# Altium schematic symbol library Passives.SchLib: 31 symbols
Pins are listed as number, name and electrical type; pins without a type are passive.

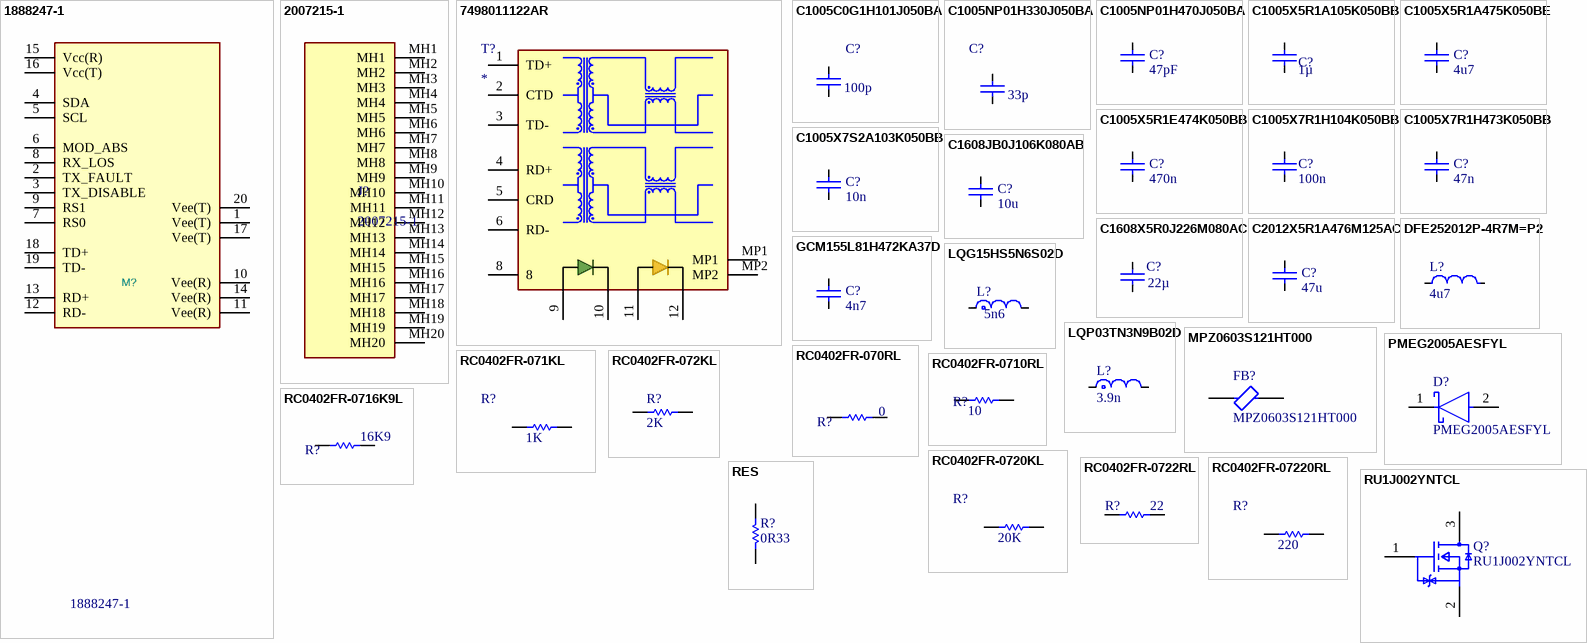
[diagram p0: symbols 1888247-1 to RU1J002YNTCL]

## 1888247-1
designator M?
SFP+, Connector, .8mm [.031in] Centerline, Power & Signal, Operating Temperature Range -55 – 85 °C [-67 – 185 °F], Data Rate (Max) 16Gb/sec; Manufacturer: TE Connectivity (TE; License: Apache-2.0; Author: Parsa Malekpor; Value: 1888247-1; Part Number: 1888247-1
footprint 1888247-1
pins: 1 Vee(T), 2 TX_FAULT, 3 TX_DISABLE, 4 SDA, 5 SCL, 6 MOD_ABS, 7 RS0, 8 RX_LOS, 9 RS1, 10 Vee(R), 11 Vee(R), 12 RD-, 13 RD+, 14 Vee(R), 15 Vcc(R), 16 Vcc(T), 17 Vee(T), 18 TD+, 19 TD-, 20 Vee(T)

## 2007215-1
designator J?
Position SFP+ Cage Connector Press-Fit Through Hole
footprint 2007215-1
pins: MH1, MH2, MH3, MH4, MH5, MH6, MH7, MH8, MH9, MH10, MH11, MH12, MH13, MH14, MH15, MH16, MH17, MH18, MH19, MH20

## 7498011122AR
designator T?
Transformer; Manufacturer_Name: Wurth Elektronik; Manufacturer_Part_Number: 7498011122AR; Datasheet Link: https://www.we-online.com/catalog/datasheet/7498011122AR.pdf; Height: 11mm; Mouser Part Number: 710-7498011122AR; Mouser Price/Stock: https://www.mouser.co.uk/ProductDetail/Wurth-Elektronik/7498011122AR?qs=GBLSl2AkiruAAlB45OgRtA%3D%3D
footprint 7498011122AR
pins: 1 TD+, 2 CTD, 3 TD-, 4 RD+, 5 CRD, 6 RD-, 8, 9 A_YELLOW, 10 K_YELLOW, 11 A_GREEN, 12 K_GREEN, MP1, MP2

## C1005C0G1H101J050BA
designator C?  value 100p  (hidden comment: C1005C0G1H101J050BA)
MLCC 100pF ±5% 50V C0G SMD 0402; Temperature Coefficient: 30ppm/°C; Dielectric Material: Ceramic; Packaging: Tape and Reel; Number of Pins: 2; Construction: Flat; Max Operating Temperature: 125°C; Depth: 0.5mm; Radiation Hardening: No; Length: 1mm; Mount: Surface Mount; Thickness: 0.022inch; RoHS Compliant: Yes; Width: 0.5mm; Termination: SMD/SMT; Min Operating Temperature: -55°C; Case/Package: 0402; Tolerance: 5%; Height: 0.5mm; Dielectric: C0G; REACH SVHC: No SVHC; Case Code (Imperial): 0402; Voltage Rating: 50V; Package Quantity: 1; Voltage Rating (DC): 50V; Weight: 2.3E-05oz; Series: C; Case Code (Metric): 1005; Voltage: 50V; Lead Free: Lead Free; Part Number: C1005C0G1H101J050BA
footprint FP-C1005-050-0_05-MFG
footprint FP-C1005-050-0_05-IPC_B
footprint FP-C1005-050-0_05-IPC_C
footprint FP-C1005-050-0_05-IPC_A
pins: 1, 2

## C1005NP01H330J050BA
designator C?  value 33p  (hidden comment: C1005NP01H330J050BA)
MLCC 33pF ±5% 50V NP0 SMD 0402; Dielectric: C0G; Case Code (Imperial): 0402; Thickness: 0.022inch; Width: 0.02inch; Case Code (Metric): 1005; Length: 0.039inch; Voltage Rating (DC): 50V; Mount: Surface Mount; Max Operating Temperature: 150°C; Height: 0.5mm; Weight: 2.3E-05oz; Voltage Rating: 50V; Case/Package: 0402; Features: High Temperature; Termination: SMD/SMT; Package Quantity: 10000; RoHS Compliant: Yes; Series: C; Tolerance: 5%; Min Operating Temperature: -55°C; Packaging: Tape and Reel; Part Number: C1005NP01H330J050BA
footprint FP-C1005-050-0_05-IPC_C
footprint FP-C1005-050-0_05-MFG
footprint FP-C1005-050-0_05-IPC_A
footprint FP-C1005-050-0_05-IPC_B
pins: 1, 2

## C1005NP01H470J050BA
designator C?  value 47pF  (hidden comment: C1005NP01H470J050BA)
MLCC 47pF ±5% 50V NP0 SMD 0402; Manufacturer: TDK; Dielectric: C0G; Termination: SMD/SMT; RoHS Compliant: Yes; Voltage Rating (DC): 50V; Voltage Rating: 50V; Min Operating Temperature: -55°C; Features: High Temperature; Mount: Surface Mount; Weight: 2.3E-05oz; Packaging: Tape and Reel; Width: 0.02inch; Case/Package: 0402; Package Quantity: 1; Thickness: 0.022inch; Case Code (Imperial): 0402; Case Code (Metric): 1005; Max Operating Temperature: 150°C; Series: C; Length: 0.039inch; Height: 0.5mm; Tolerance: 5%
footprint FP-C1005-050-0_05-IPC_A
footprint FP-C1005-050-0_05-IPC_B
footprint FP-C1005-050-0_05-MFG
footprint FP-C1005-050-0_05-IPC_C
pins: 1, 2

## C1005X5R1A105K050BB
designator C?  value 1µ  (hidden comment: C1005X5R1A105K050BB)
MLCC 1 uF, +/- 10%, 10 V, -55 to 85 degC, 0402 (1005 Metric), RoHS, Tape and Reel; Manufacturer: TDK; PCN Part Number: MLCCPartNumberChange30/Nov/2012; Product Training Modules: CSeriesGeneralApplicationsSEAT,CCV,andTVCLDesignToolsGuidetoReplacinganElectrolyticCapacitorwithanMLCC; Voltage - Rated: 10V; Temperature Coefficient: X5R; Online Catalog: CSeries,GeneralPurpose; Other Names: 445-4114-6; Category: Capacitors; Features: -; Lead Style: -; RoHS Information: RoHSCertificate-MLCC; Manufacturer URL: http://www.tdk.com/; Lead Spacing: -; Thickness (Max): 0.022"(0.55mm); Applications: GeneralPurpose; Tolerance: ±10%; Mounting Technology: SurfaceMount; Mounting Type: SurfaceMount,MLCC; Operating Temperature: -55°C~85°C; Datasheet URL: http://download.siliconexpert.com/pdfs/2015/4/21/15/54/45/779/tdk_/manual/37024850441143360mlcc_commercial_general_en.pdf; Package Reference: 1005; Height - Seated (Max): -; Family: CeramicCapacitors; Datasheet Version: 03/2015; Package Description: 2-Pin Surface Mount Device, Body 1 x 0.5 mm; Packaging: Digi-Reel®; Size / Dimension: 0.039"Lx0.020"W(1.00mmx0.50mm); Standard Package: 1; Package / Case: 0402(1005Metric); Ratings: -; Series: C; Part Number: C1005X5R1A105K050BB
footprint CAPC1005X55X10LL05 (Chip Capacitor, 2-Leads, Body 1.05x0.55mm, IPC High Density)
footprint CAPC1005X55X10NL05 (Chip Capacitor, 2-Leads, Body 1.05x0.55mm, IPC Medium Density)
pins: 1, 2

## C1005X5R1A475K050BE
designator C?  value 4u7  (hidden comment: C1005X5R1A475K050BE)
MLCC  4.7UF ±20 10V X5R 0402; Tolerance: 10%; Max Operating Temperature: 85°C; Case Code (Metric): 1005; Voltage Rating: 10V; Packaging: Tape and Reel; Case/Package: 0402; Features: Soft Termination; Min Operating Temperature: -55°C; Mount: Surface Mount; Case Code (Imperial): 0402; RoHS Compliant: Yes; Part Number: C1005X5R1A475K050BE
footprint FP-C1005-050-0_20-0_10-MFG
footprint FP-C1005-050-0_20-0_10-IPC_C
footprint FP-C1005-050-0_20-0_10-IPC_B
footprint FP-C1005-050-0_20-0_10-IPC_A
pins: 1, 2

## C1005X5R1E474K050BB
designator C?  value 470n  (hidden comment: C1005X5R1E474K050BB)
MLCC 470nF ±10% 25V X5R SMD 0402; Dielectric Material: Ceramic; Dissipation Factor: 10%; Case Code (Metric): 1005; RoHS Compliant: Yes; Lead Free: Lead Free; Length: 1mm; Case/Package: 0402; Termination: SMD/SMT; Dielectric: X5R; Depth: 0.5mm; Series: C; Voltage: 25V; Tolerance: 10%; Packaging: Tape and Reel; Resistor Type: Ceramic; Min Operating Temperature: -55°C; Width: 0.02inch; Thickness: 500um; Package Quantity: 10000; Case Code (Imperial): 0402; Construction: Flat; Height: 0.5mm; REACH SVHC: No SVHC; Radiation Hardening: No; Weight: 2.3E-05oz; Mount: Surface Mount; Voltage Rating (DC): 25V; Max Operating Temperature: 85°C; Part Number: C1005X5R1E474K050BB; Voltage Rating: 25V
footprint FP-C1005-050-0_05-IPC_C
pins: 1, 2

## C1005X7R1H104K050BB
designator C?  value 100n  (hidden comment: C1005X7R1H104K050BB)
MLCC 100nF ±10% 50V X7R SMD 0402; Dielectric Material: Ceramic; Voltage: 50V; Min Operating Temperature: -55°C; Depth: 0.5mm; Radiation Hardening: No; RoHS Compliant: Yes; Voltage Rating (DC): 50V; Lead Free: Lead Free; Resistor Type: Ceramic; Height: 0.5mm; Dielectric: X7R; Thickness: 0.022inch; Case/Package: 0402; Case Code (Metric): 1005; Termination: SMD/SMT; Packaging: Tape and Reel; Max Operating Temperature: 125°C; Mount: Surface Mount; Package Quantity: 1; Width: 0.02inch; Weight: 2.3E-05oz; Voltage Rating: 50V; Tolerance: 10%; Construction: Flat; Case Code (Imperial): 0402; Length: 1mm; REACH SVHC: No SVHC; Series: C; Part Number: C1005X7R1H104K050BB
footprint FP-C1005-050-0_05-IPC_C
footprint FP-C1005-050-0_05-IPC_A
footprint FP-C1005-050-0_05-IPC_B
footprint FP-C1005-050-0_05-MFG
pins: 1, 2

## C1005X7R1H473K050BB
designator C?  value 47n  (hidden comment: C1005X7R1H473K050BB)
MLCC 47nF ±10% 50V X7R SMD 0402; Dielectric Material: Ceramic; Dissipation Factor: 5%; Weight: 2.3E-05oz; Max Operating Temperature: 125°C; Package Quantity: 1; Width: 0.02inch; Min Operating Temperature: -55°C; Length: 1mm; Dielectric: X7R; Voltage Rating: 50V; Number of Pins: 2; Lead Free: Lead Free; Voltage: 50V; Height: 0.5mm; Case Code (Metric): 1005; Voltage Rating (DC): 50V; Construction: Flat; Termination: SMD/SMT; Case Code (Imperial): 0402; Depth: 0.5mm; Packaging: Tape and Reel; Mount: Surface Mount; Series: C; RoHS Compliant: Yes; Tolerance: 10%; Case/Package: 0402; Thickness: 0.022inch; Radiation Hardening: No; Resistor Type: Ceramic; REACH SVHC: No SVHC; Part Number: C1005X7R1H473K050BB
footprint FP-C1005-050-0_05-IPC_C (Footprint not found)
pins: 1, 2

## C1005X7S2A103K050BB
designator C?  value 10n  (hidden comment: C1005X7S2A103K050BB)
MLCC 10nF ±10% 100V X7S SMD 0402; Dielectric Material: Ceramic; Dissipation Factor: 5%; Case Code (Imperial): 0402; Packaging: Tape and Reel; Voltage Rating (DC): 100V; Max Operating Temperature: 125°C; Min Operating Temperature: -55°C; Case Code (Metric): 1005; Weight: 2.3E-05oz; Length: 1mm; Width: 0.02inch; Tolerance: 10%; Series: C; Package Quantity: 1; RoHS Compliant: Yes; Voltage: 100V; Resistor Type: Ceramic; Number of Pins: 2; Mount: Surface Mount; Height: 0.5mm; Termination: SMD/SMT; Dielectric: X7S; Thickness: 0.022inch; REACH SVHC: No SVHC; Lead Free: Lead Free; Voltage Rating: 100V; Case/Package: 0402; Depth: 0.5mm; Part: *; Part Number: C1005X7S2A103K050BB
footprint FP-C1005-050-0_05-IPC_B
footprint FP-C1005-050-0_05-MFG
footprint FP-C1005-050-0_05-IPC_A
footprint FP-C1005-050-0_05-IPC_C
pins: 1, 2

## C1608JB0J106K080AB
designator C?  value 10u  (hidden comment: C1608JB0J106K080AB)
MLCC 10μF ±10% 6.3V JB SMD 0603; Dielectric Material: Ceramic; Case Code (Imperial): 0603; Thickness: 0.035inch; Min Operating Temperature: -25°C; Termination: SMD/SMT; Lead Free: Lead Free; Resistor Type: Ceramic; Width: 0.8mm; Voltage Rating (DC): 6.3V; Package Quantity: 4000; Tolerance: 10%; Length: 0.063inch; Series: C; Height: 0.8mm; Max Operating Temperature: 85°C; Mount: Surface Mount; RoHS Compliant: Yes; Voltage Rating: 6.3V; Case Code (Metric): 1608; Case/Package: 0603; Packaging: Tape and Reel
footprint FP-C1608-080-0_1-IPC_B
footprint FP-C1608-080-0_1-MFG
footprint FP-C1608-080-0_1-IPC_A
footprint FP-C1608-080-0_1-IPC_C
pins: 1, 2

## C1608X5R0J226M080AC
designator C?  value 22µ  (hidden comment: C1608X5R0J226M080AC)
MLCC 22 uF, ±20%, 6.3 V, -55 to 85 degC, 1608 (0603 Metric), RoHS, Tape and Reel; PCN Part Number: MLCCPartNumberChange30/Nov/2012; Manufacturer: TDK; Temperature Coefficient: X5R; Product Training Modules: CSeriesGeneralApplicationsSEAT,CCV,andTVCLDesignToolsGuidetoReplacinganElectrolyticCapacitorwithanMLCC; Other Names: 445-8028-1; Voltage - Rated: 6.3V; Design Resources: 20WNon-IsolatedBuckLEDDriverUsingPLLNK460KG; Online Catalog: CSeries,GeneralPurpose; Kits: 445-9003-KIT-ND-KITCAPCERHICAPMLCCSMD; Tolerance: ±20%; Series: C; Thickness (Max): 0.039"(1.00mm); Mounting Type: SurfaceMount,MLCC; Ratings: -; Datasheet Version: Mar-15; Package Reference: 603; Packaging: CutTape(CT); Features: -; Package / Case: 0603(1608Metric); Family: CeramicCapacitors; Lead Spacing: -; RoHS Information: RoHSCertificate-MLCC; Manufacturer URL: http://www.tdk.com/; Lead Style: -; Category: Capacitors; Applications: GeneralPurpose; Package Description: 2-Pin Surface Mount Device, Body 1.6 x 0.8 mm; Standard Package: 1; Datasheet URL: http://www.farnell.com/datasheets/1913358.pdf; Height - Seated (Max): -; Operating Temperature: -55degC~85degC; Size / Dimension: 0.063"Lx0.031"W(1.60mmx0.80mm)
footprint CAPC1608X100X20ML10 (Chip Capacitor, 2-Leads, Body 1.70x0.90mm, IPC Low Density)
footprint CAPC1608X100X20NL10 (Chip Capacitor, 2-Leads, Body 1.70x0.90mm, IPC Medium Density)
footprint CAPC1608X100X20LL10 (Chip Capacitor, 2-Leads, Body 1.70x0.90mm, IPC High Density)
pins: 1, 2

## C2012X5R1A476M125AC
designator C?  value 47u  (hidden comment: C2012X5R1A476M125AC)
MLCC 47μF ±20% 10V X5R SMD 0805 Multilayer Ceramic Capacitors; RoHS Compliant: Yes; Dielectric: X5R; Case Code (Imperial): 0805; Min Operating Temperature: -55°C; Length: 2mm; Voltage Rating: 10V; Lead Free: Lead Free; Weight: 0.000194oz; Resistor Type: Ceramic; Dielectric Material: Ceramic; Max Operating Temperature: 85°C; Height: 1.25mm; Width: 0.049inch; Depth: 1.25mm; Termination: SMD/SMT; Case/Package: 0805; Voltage Rating (DC): 10V; Voltage: 10V; Thickness: 0.057inch; Tolerance: 20%; REACH SVHC: No SVHC; Package Quantity: 1; Series: C; Case Code (Metric): 2012; Mount: Surface Mount; Packaging: Tape and Reel; Part Number: C2012X5R1A476M125AC
footprint FP-C2012-125-0_2-IPC_B
footprint FP-C2012-125-0_2-MFG
footprint FP-C2012-125-0_2-IPC_A
footprint FP-C2012-125-0_2-IPC_C
pins: 1, 2

## DFE252012P-4R7M=P2
designator L?  value 4u7  (hidden comment: DFE252012P-4R7M=P2)
Shielded Wirewound Inductor 4.7uH 20% 1400mA 0.2Ω 1008 (2520); Core Material: Ferrite; Test Frequency: 1MHz; DC Resistance (DCR): 200mR; Max DC Current: 1.4A; Current Rating: 2A; Case Code (Metric): 2520; Case Code (Imperial): 1008; Inductance: 4.7uH; Mount: Surface Mount; Packaging: Tape and Reel; Depth: 2mm; Length: 0.098inch; Case/Package: 1008; Max Operating Temperature: 125°C; Shielding: Shielded; Width: 0.079inch; Height - Seated (Max): 0.047inch; Tolerance: 20%; Min Operating Temperature: -40°C; Resistor Type: Wirewound
footprint FP-DFE252012C-IPC_C
footprint FP-DFE252012C-IPC_A
footprint FP-DFE252012C-MFG
footprint FP-DFE252012C-IPC_B
pins: 1, 2

## GCM155L81H472KA37D
designator C?  value 4n7  (hidden comment: GCM155L81H472KA37D)
MLCC for Automotive 4.7nF ±10% 50VDC X8L 0402 Paper T/R; Depth: 0.5mm; Length: 1mm; Packaging: Tape and Reel; Case/Package: 0402; Min Operating Temperature: -55°C; Max Operating Temperature: 150°C; Tolerance: 10%; Dielectric: X8L
footprint FP-GCM155-0_05-IPC_A
footprint FP-GCM155-0_05-IPC_B
footprint FP-GCM155-0_05-IPC_C
footprint FP-GCM155-0_05-MFG
pins: 1, 2

## LQG15HS5N6S02D
designator L?  value 5n6  (hidden comment: LQG15HS5N6S02D)
Multilayer type RF Inductor 5.6nH ±0.3nH 0.18Ω 650mA 0402; Core Material: Air; Test Frequency: 100MHz; DC Resistance (DCR): 200mR; Shielding: Unshielded; DC Current: 300mA; Self Resonant Frequency: 4.5GHz; Q Factor: 8; Lead Free: Lead Free; Case/Package: 0402; Packaging: Tape and Reel; Height: 0.5mm; Package Quantity: 10000; Max Operating Temperature: 125°C; Termination: SMD/SMT; Width: 0.5mm; Height - Seated (Max): 0.022inch; Depth: 0.55mm; Min Operating Temperature: -55°C; Military Standard: Not; Radiation Hardening: No; Length: 1mm; Case Code (Metric): 1005; Mount: Surface Mount; Case Code (Imperial): 0402; Inductance: 5.6nH; Max DC Current: 300mA; Current Rating: 300mA
footprint FP-LQG15HH_02-MFG
footprint FP-LQG15HH_02-IPC_B
footprint FP-LQG15HH_02-IPC_C
footprint FP-LQG15HH_02-IPC_A
pins: 1, 2

## LQP03TN3N9B02D
designator L?  value 3.9n  (hidden comment: LQP03TN3N9B02D)
Film type RF Inductor 3.9nH ±0.1nH 400mA 0.3Ω 0201 (0603); DC Resistance (DCR): 300mR; Core Material: Non-Magnetic; Test Frequency: 500MHz; Q Factor: 14; Shielding: Unshielded; Current: 250mA; Self Resonant Frequency: 5.7GHz; Tolerance: 3%; Case/Package: 0201; Height - Seated (Max): 0.013inch; Termination: SMD/SMT; Package Quantity: 15000; Series: LQP; Depth: 0.33mm; Lead Free: Lead Free; Inductance: 3.9nH; Rated Current-Max: 400mA; Length: 0.6mm; Height: 0.3mm; Case Code (Metric): 0603; Resistor Type: Thin Film; Packaging: Tape and Reel; Radiation Hardening: No; Technology: THIN FILM; Max DC Current: 400mA; Military Standard: Not; Min Operating Temperature: -55°C; Width: 0.012inch; DC Current: 400mA; Mount: Surface Mount; REACH SVHC: No SVHC; Current Rating: 400mA; Max Operating Temperature: 125°C; Case Code (Imperial): 0201
footprint FP-LQP03TG_02-IPC_A
footprint FP-LQP03TG_02-IPC_C
footprint FP-LQP03TG_02-MFG
footprint FP-LQP03TG_02-IPC_B
pins: 1, 2

## MPZ0603S121HT000
designator FB?
CHIP BEADS FOR GENERAL SIGNAL LI; Max Current Rating: 1A; DC Resistance (DCR): 130mR; Number of Lines: 1; Min Operating Temperature: -55°C; Mount: Surface Mount; Case Code (Imperial): 0201; Case Code (Metric): 0603; Max Operating Temperature: 125°C; RoHS Compliant: Yes; Packaging: Cut Tape; Case/Package: 0201
footprint FP-MPZ0603-IPC_C
footprint FP-MPZ0603-IPC_B
footprint FP-MPZ0603-IPC_A
footprint FP-MPZ0603-MFG
pins: 1, 2

## PMEG2005AESFYL
designator D?
DIODE SCHOTTKY 20V 0.5A SOD962; Manufacturer: Nexperia; Max Junction Temp: +150°C; Peak Reverse Current: 10uA; Capacitance: 25pF; Forward Current: 0.71A; Max Surge Forward Current: 4.5A; Value: 25pF; Lead Free: Yes; ComponentLink2Description: Datasheet; Octopart: https://octopart.com/pmeg2005aesfyl-nexperia-78741393; Ambient Temperature Range High: +150°C; Height: 0.32mm; Footprint Url: https://assets.nexperia.com/documents/outline-drawing/SOD962-2.pdf; Automotive: No; Device Class L2: Diodes; Ambient Temperature Range Low: -55°C; Device Class L3: Schottky Diodes; ComponentLink2URL: https://assets.nexperia.com/documents/data-sheet/PMEG2005AESF.pdf; Reverse Voltage: 20V; Temperature: to +150°C; Temperature Range High: +150°C; Device Class L1: Discrete Semiconductors; RoHS: TRUE; Digikey Description: DIODE SCHOTTKY 20V 0.5A SOD962; Category: Diode; Package: SOD962; Manufacturer Part Number: PMEG2005AESFYL
footprint FP-PMEG2005AESFYL-MFG
pins: 1 K, 2 A

## RC0402FR-070RL
designator R?  value 0  (hidden comment: RC0402FR-070RL)
GENERAL PURPOSE CHIP RESISTOR Metal Glaze/thick Film, 0.0625W, 0ohm, Surface Mount, 0402; Manufacturer: Yageo / Phycomp; Part Number: RC0402FR-071K5L; Supplier 1: Avnet; Supplier Part Number 1: RC0402FR-070RL
footprint RESC1005X40X25ML05T10 (Chip Resistor, 2-Leads, Body 1.00x0.50mm, IPC Low Density)
footprint RESC1005X40X25NL05T10 (Chip Resistor, 2-Leads, Body 1.00x0.50mm, IPC Medium Density)
footprint RESC1005X40X25LL05T10 (Chip Resistor, 2-Leads, Body 1.00x0.50mm, IPC High Density)
pins: 1, 2
1 alternate drawing of the same symbol

## RC0402FR-071KL
designator R?  value 1K  (hidden comment: RC0402FR-071KL)
62.5mW Thick Film Resistors 50V ±100ppm/℃ ±1% 1kΩ 0402 Chip Resistor - Surface Mount ROHS; Manufacturer: Yageo / Phycomp; Part Number: RC0402FR-071KL; Supplier 1: Avnet; Supplier Part Number 1: RC0402FR-071KL
footprint RESC1005X40X25NL05T10 (Chip Resistor, 2-Leads, Body 1.00x0.50mm, IPC Medium Density)
footprint RESC1005X40X25LL05T10 (Chip Resistor, 2-Leads, Body 1.00x0.50mm, IPC High Density)
footprint RESC1005X40X25ML05T10 (Chip Resistor, 2-Leads, Body 1.00x0.50mm, IPC Low Density)
pins: 1, 2
1 alternate drawing of the same symbol

## RC0402FR-072KL
designator R?  value 2K  (hidden comment: RC0402FR-072KL)
62.5mW Thick Film Resistors 50V ±100ppm/℃ ±1% 2kΩ 0402 Chip Resistor - Surface Mount ROHS; Manufacturer: Yageo / Phycomp; Part Number: RC0402FR-072KL; Supplier 1: Avnet; Supplier Part Number 1: RC0402FR-072KL
footprint RESC1005X40X25NL05T10 (Chip Resistor, 2-Leads, Body 1.00x0.50mm, IPC Medium Density)
footprint RESC1005X40X25LL05T10 (Chip Resistor, 2-Leads, Body 1.00x0.50mm, IPC High Density)
footprint RESC1005X40X25ML05T10 (Chip Resistor, 2-Leads, Body 1.00x0.50mm, IPC Low Density)
pins: 1, 2
1 alternate drawing of the same symbol

## RC0402FR-0710RL
designator R?  value 10  (hidden comment: RC0402FR-0710RL)
Part Number: RC0402FR-07220RL; Manufacturer: Yageo / Phycomp; Supplier 1: Avnet; Supplier Part Number 1: RC0402FR-0710RL
footprint RESC1005X40X25LL05T10 (Chip Resistor, 2-Leads, Body 1.00x0.50mm, IPC High Density)
footprint RESC1005X40X25ML05T10 (Chip Resistor, 2-Leads, Body 1.00x0.50mm, IPC Low Density)
footprint RESC1005X40X25NL05T10 (Chip Resistor, 2-Leads, Body 1.00x0.50mm, IPC Medium Density)
pins: 1, 2
1 alternate drawing of the same symbol

## RC0402FR-0716K9L
designator R?  value 16K9  (hidden comment: RC0402FR-0716K9L)
Manufacturer: Yageo / Phycomp; Part Number: RC0402FR0715KL; Supplier 1: Avnet; Supplier Part Number 1: 49AK1279
footprint RESC1005X40X25NL05T10 (Chip Resistor, 2-Leads, Body 1.00x0.50mm, IPC Medium Density)
footprint RESC1005X40X25ML05T10 (Chip Resistor, 2-Leads, Body 1.00x0.50mm, IPC Low Density)
footprint RESC1005X40X25LL05T10 (Chip Resistor, 2-Leads, Body 1.00x0.50mm, IPC High Density)
pins: 1, 2
1 alternate drawing of the same symbol

## RC0402FR-0720KL
designator R?  value 20K  (hidden comment: RC0402FR-0720KL)
Res Thick Film 0402 20K Ohm 1% 1/16W +/-100ppm/ﾟC Molded SMD Paper T/R; Manufacturer: Yageo / Phycomp; Part Number: RC0402FR-0710K2L; Supplier 1: Avnet; Supplier Part Number 1: RC0402FR-0720KL
footprint RESC1005X40X25ML05T10 (Chip Resistor, 2-Leads, Body 1.00x0.50mm, IPC Low Density)
footprint RESC1005X40X25LL05T10 (Chip Resistor, 2-Leads, Body 1.00x0.50mm, IPC High Density)
footprint RESC1005X40X25NL05T10 (Chip Resistor, 2-Leads, Body 1.00x0.50mm, IPC Medium Density)
pins: 1, 2
1 alternate drawing of the same symbol

## RC0402FR-0722RL
designator R?  value 22  (hidden comment: RC0402FR-0722RL)
Part Number: RC0402FR-0710KL; Manufacturer: Yageo / Phycomp; Supplier 1: Avnet; Supplier Part Number 1: RC0402FR-0722RL
footprint RESC1005X40X25LL05T10 (Chip Resistor, 2-Leads, Body 1.00x0.50mm, IPC High Density)
footprint RESC1005X40X25ML05T10 (Chip Resistor, 2-Leads, Body 1.00x0.50mm, IPC Low Density)
footprint RESC1005X40X25NL05T10 (Chip Resistor, 2-Leads, Body 1.00x0.50mm, IPC Medium Density)
pins: 1, 2
1 alternate drawing of the same symbol

## RC0402FR-07220RL
designator R?  value 220  (hidden comment: RC0402FR-07220RL)
Manufacturer: Yageo / Phycomp; Part Number: RC0402FR-07220RL; Supplier 1: Avnet; Supplier Part Number 1: RC0402FR-07220RL
footprint RESC1005X40X25LL05T10 (Chip Resistor, 2-Leads, Body 1.00x0.50mm, IPC High Density)
footprint RESC1005X40X25NL05T10 (Chip Resistor, 2-Leads, Body 1.00x0.50mm, IPC Medium Density)
footprint RESC1005X40X25ML05T10 (Chip Resistor, 2-Leads, Body 1.00x0.50mm, IPC Low Density)
pins: 1, 2
1 alternate drawing of the same symbol

## RES
designator R?, comment value 0R33  (hidden comment: ERJ-3RQFR33V)
Manufacturer: Panasonic; Part Number: ERJ-3RQFR33V
footprint RESC1608X55X30ML15T15 (Chip Resistor, 2-Leads, Body 1.60x0.80mm, IPC Low Density)
footprint RESC1608X55X30LL15T15 (Chip Resistor, 2-Leads, Body 1.60x0.80mm, IPC High Density)
footprint RESC1608X55X30NL15T15 (Chip Resistor, 2-Leads, Body 1.60x0.80mm, IPC Medium Density)
pins: 1, 2
1 alternate drawing of the same symbol

## RU1J002YNTCL
designator Q?
MOSFET N-CH 50V 0.2A UMT3F; Manufacturer: Rohm; Drain To Source Resistance: 1.6Ω; Depletion Mode: False; Continuous Drain Current: 200mA; Pulse Drain Current: 800mA; Turn On Delay Time: 5ns; Threshold Vgs Max: 0.8V; Rthja Max: 833°C/W; Max Forward Diode Voltage: 1.2V; Max Junction Temp: +150°C; Standoff Height: 0mm; Input Capacitace At Vds: 26pF @ 10V; Number Of Channels: 1; Power Dissipation: 150mW; Gate To Source Voltage: 8V; Turn Off Delay Time: 17ns; Threshold Vgs Min: 0.3V; Lead Free: Yes; Device Class L3: MOSFETs; Drain To Source Voltage: 50V; ComponentLink2URL: https://d1d2qsbl8m0m72.cloudfront.net/en/products/databook/datasheet/discrete/transistor/mosfet/ru1j002yn-e.pdf; RoHS: TRUE; Device Class L2: Transistors; Mouser Description: MOSFET 0.9V Drive Nch MOSFET; Category: Trans; Octopart: https://octopart.com/ru1j002yntcl-rohm-47197697; Temperature: to +150°C; Height: 1.05mm; Number Of N Channels: 1; Package: UMT3F; ComponentLink2Description: Datasheet; Automotive: No; Drain To Source Breakdown Voltage: 50V; Device Class L1: Discrete Semiconductors; Digikey Description: MOSFET N-CH 50V 0.2A UMT3F; Manufacturer Part Number: RU1J002YNTCL; Temperature Range High: +150°C
footprint FP-UMT3F-MFG
pins: 1 G, 2 S, 3 D